# EAGLE library part LDC1614 (library LDC1614RGHT)
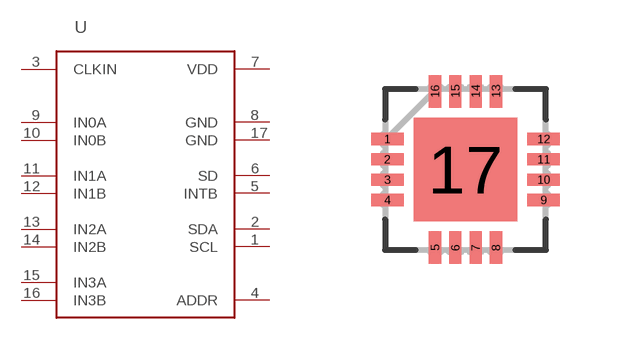
[diagram p0: symbol with the pads of LDC1614; footprint LDC1614]

Designator prefix -

## LDC1614  [LDC1614]
1  SCL
2  SDA
3  CLKIN
4  ADDR
5  INTB
6  SD
7  VDD
8  GND
9  IN0A
10  IN0B
11  IN1A
12  IN1B
13  IN2A
14  IN2B
15  IN3A
16  IN3B
17  GND

## Footprint LDC1614 (pad centres in mm)
smd 0.813 x 0.305: 1 -1.956,0.762; 2 -1.956,0.254; 3 -1.956,-0.254; 4 -1.956,-0.762; 9 1.956,-0.762; 10 1.956,-0.254; 11 1.956,0.254; 12 1.956,0.762
smd 0.305 x 0.813: 5 -0.762,-1.956; 6 -0.254,-1.956; 7 0.254,-1.956; 8 0.762,-1.956; 13 0.762,1.956; 14 0.254,1.956; 15 -0.254,1.956; 16 -0.762,1.956
smd 2.591 x 2.591: 17 0,0